# EAGLE library part DS3930E+T&R (library 911_circuits)
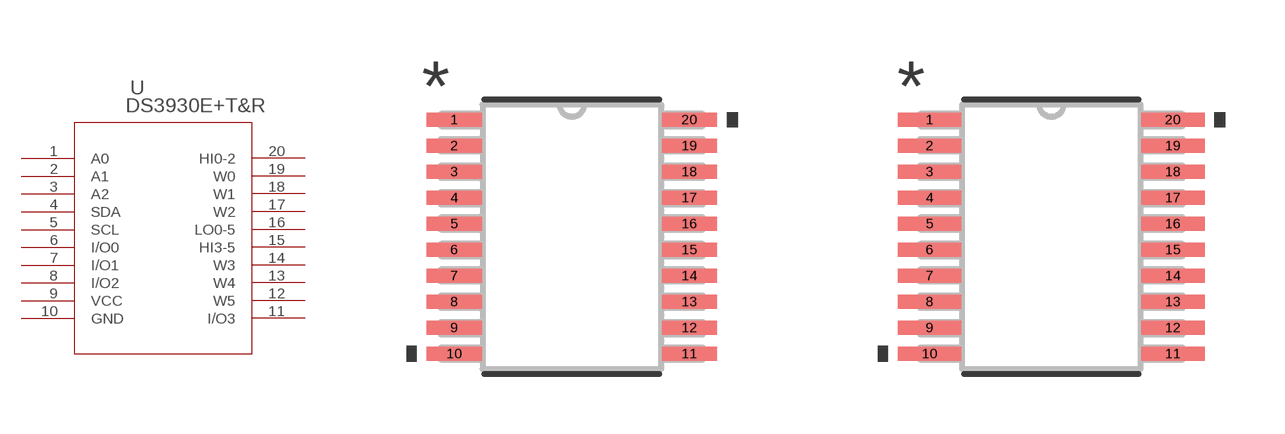
[diagram p8: symbol with the pads of 21-0066_U20+5_MXM; footprints 21-0066_U20+5_MXM, 21-0066_U20+5_MXM-M]

Designator prefix U

## DS3930E+T&R (COPYRIGHT: Copyright (C) 2025 Ultra Librarian. All rights reserved.; MANUFACTURER_PART_NUMBER: DS3930E+T&R; MFR_NAME: Analog Devices / Maxim Integrated)  [21-0066_U20+5_MXM]
1  A0
2  A1
3  A2
4  SDA
5  SCL
6  I/O0
7  I/O1
8  I/O2
9  VCC  pwr
10  GND  pwr
11  I/O3
12  W5
13  W4
14  W3
15  HI3-5
16  LO0-5
17  W2
18  W1
19  W0
20  HI0-2

## DS3930E+T&R21-0066_U20+5_MXM-M (COPYRIGHT: Copyright (C) 2025 Ultra Librarian. All rights reserved.; MANUFACTURER_PART_NUMBER: DS3930E+T&R; MFR_NAME: Analog Devices / Maxim Integrated)  [21-0066_U20+5_MXM-M]
Pads as for 21-0066_U20+5_MXM

## DS3930E+T&R21-0066_U20+5_MXM-L (COPYRIGHT: Copyright (C) 2025 Ultra Librarian. All rights reserved.; MANUFACTURER_PART_NUMBER: DS3930E+T&R; MFR_NAME: Analog Devices / Maxim Integrated)  [21-0066_U20+5_MXM-L]
Pads as for 21-0066_U20+5_MXM

## Footprint 21-0066_U20+5_MXM (pad centres in mm)
smd 1.384 x 0.356: 1 -2.94,2.925; 2 -2.94,2.275; 3 -2.94,1.625; 4 -2.94,0.975; 5 -2.94,0.325; 6 -2.94,-0.325; 7 -2.94,-0.975; 8 -2.94,-1.625; 9 -2.94,-2.275; 10 -2.94,-2.925; 11 2.94,-2.925; 12 2.94,-2.275; 13 2.94,-1.625; 14 2.94,-0.975; 15 2.94,-0.325; 16 2.94,0.325; 17 2.94,0.975; 18 2.94,1.625; 19 2.94,2.275; 20 2.94,2.925

## Footprint 21-0066_U20+5_MXM-M (pad centres in mm)
smd 1.587 x 0.356: 1 -3.042,2.925; 2 -3.042,2.275; 3 -3.042,1.625; 4 -3.042,0.975; 5 -3.042,0.325; 6 -3.042,-0.325; 7 -3.042,-0.975; 8 -3.042,-1.625; 9 -3.042,-2.275; 10 -3.042,-2.925; 11 3.042,-2.925; 12 3.042,-2.275; 13 3.042,-1.625; 14 3.042,-0.975; 15 3.042,-0.325; 16 3.042,0.325; 17 3.042,0.975; 18 3.042,1.625; 19 3.042,2.275; 20 3.042,2.925

## Footprint 21-0066_U20+5_MXM-L (pad centres in mm)
smd 1.118 x 0.305: 1 -2.87,2.925; 2 -2.87,2.275; 3 -2.87,1.625; 4 -2.87,0.975; 5 -2.87,0.325; 6 -2.87,-0.325; 7 -2.87,-0.975; 8 -2.87,-1.625; 9 -2.87,-2.275; 10 -2.87,-2.925; 11 2.87,-2.925; 12 2.87,-2.275; 13 2.87,-1.625; 14 2.87,-0.975; 15 2.87,-0.325; 16 2.87,0.325; 17 2.87,0.975; 18 2.87,1.625; 19 2.87,2.275; 20 2.87,2.925